# EAGLE library part CAP1166 (library pimoroni)
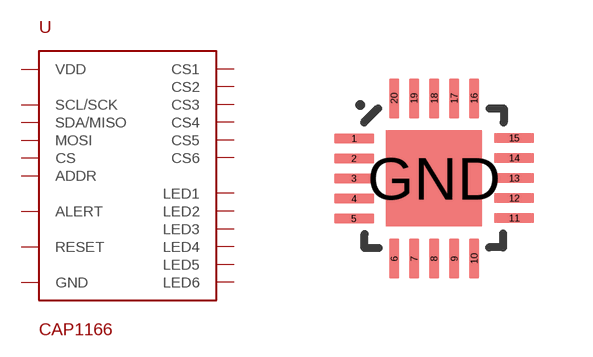
[diagram p54: symbol with the pads of QFN20; footprint QFN20]

Designator prefix -

## CAP1166  [QFN20]
1  CS
2  MOSI
3  SDA/MISO
4  SCL/SCK
5  LED1
6  LED2
7  LED3
8  LED4
9  LED5
10  LED6
11  ALERT
12  ADDR
13  CS6
14  CS5
15  CS4
16  CS3
17  CS2
18  CS1
19  VDD
20  RESET
GND  GND

## Footprint QFN20 (pad centres in mm)
smd 1 x 0.25: 1 -1.505,0.5; 2 -1.505,0.002; 3 -1.505,-0.496; 4 -1.505,-1.004; 5 -1.505,-1.502; 11 2.505,-1.49; 12 2.505,-0.992; 13 2.505,-0.494; 14 2.505,0.014; 15 2.505,0.512
smd 0.25 x 1: 6 -0.5,-2.505; 7 -0.002,-2.505; 8 0.496,-2.505; 9 1.004,-2.505; 10 1.502,-2.505; 16 1.5,1.505; 17 1.002,1.505; 18 0.504,1.505; 19 -0.004,1.505; 20 -0.502,1.505
smd 2.4 x 2.4: GND 0.5,-0.5